# Altium footprint library ME218D_GM_2017.PcbLib: 19 footprints (part 2 of 2)
Each footprint in its own frame and in the unit in brackets; x right, y up, seen from the top. Pads: shape width x height; smd on the part's side, far side on the other; paste and mask are expansions set on the pad; w line width, h text height; cw(c..) or ccw(c..) is an arc to the next point about the centre after c.
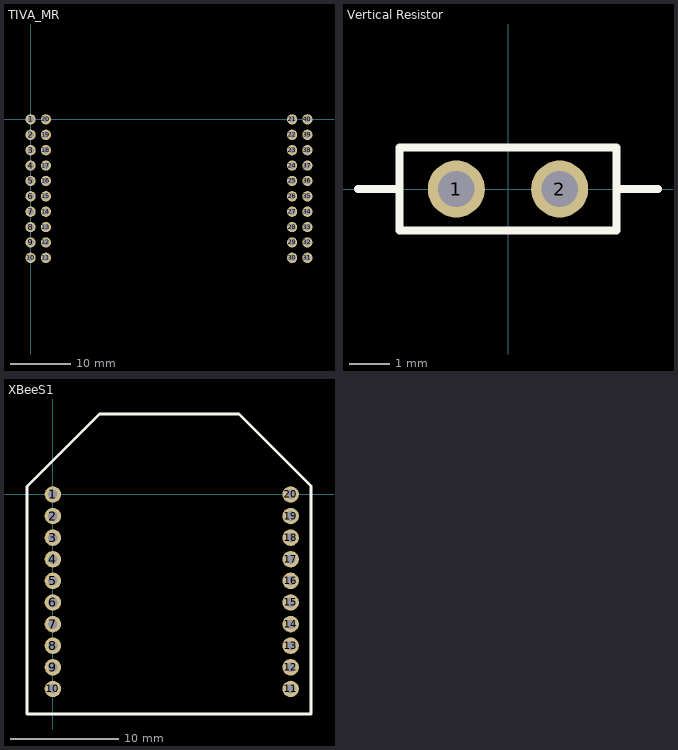
[diagram p1: the footprints below, top view; thin cyan lines are the x and y axes]

## TIVA_MR [mm]
pads (40):
  round 1.7 hole 1.067: 1(0,0) 2(0,-2.54) 3(0,-5.08) 4(0,-7.62) 5(0,-10.16) 6(0,-12.7) 7(0,-15.24) 8(0,-17.78) 9(0,-20.32) 10(0,-22.86) 11(2.54,-22.86) 12(2.54,-20.32) 13(2.54,-17.78) 14(2.54,-15.24) 15(2.54,-12.7) 16(2.54,-10.16) 17(2.54,-7.62) 18(2.54,-5.08) 19(2.54,-2.54) 20(2.54,0) 21(43.18,0) 22(43.18,-2.54) 23(43.18,-5.08) 24(43.18,-7.62) 25(43.18,-10.16) 26(43.18,-12.7) 27(43.18,-15.24) 28(43.18,-17.78) 29(43.18,-20.32) 30(43.18,-22.86) 31(45.72,-22.86) 32(45.72,-20.32) 33(45.72,-17.78) 34(45.72,-15.24) 35(45.72,-12.7) 36(45.72,-10.16) 37(45.72,-7.62) 38(45.72,-5.08) 39(45.72,-2.54) 40(45.72,0)
Bottom Overlay:
  lines w0.254: -1.905,-24.384 -1.905,1.27 4.445,1.27 4.445,-24.384 -1.905,-24.384 ; 41.275,-24.257 47.625,-24.257 47.625,1.397 41.275,1.397 41.275,-24.257

## Vertical Resistor [mm]
height 7.62
pads (2):
  round 1.4 hole 0.889: 1(-1.27,0) 2(1.27,0)
Top Overlay:
  lines w0.2: -3.683,0 -2.667,0 ; 2.794,0 3.683,0 ; -2.667,-1.016 -2.667,1.016 2.667,1.016 2.667,-1.016 -2.667,-1.016

## XBeeS1 [mil]
height 250
pads (20):
  round 60 hole 35: 1(0,0) 2(0,-78.74) 3(0,-157.48) 4(0,-236.22) 5(0,-314.96) 6(0,-393.7) 7(0,-472.44) 8(0,-551.18) 9(0,-629.92) 10(0,-708.66) 11(866.14,-708.66) 12(866.14,-629.92) 13(866.14,-551.18) 14(866.14,-472.44) 15(866.14,-393.7) 16(866.14,-314.96) 17(866.14,-236.22) 18(866.14,-157.48) 19(866.14,-78.74) 20(866.14,0)
Top Overlay:
  lines w10: -94,-800 940,-800 940,31 678,293 170,293 -94,29 -94,-800